# Altium footprint library Connector_Samtec_HLE_THT.PcbLib: 141 footprints (part 1 of 9)
Each footprint in its own frame and in the unit in brackets; x right, y up, seen from the top. Pads: shape width x height; smd on the part's side, far side on the other; paste and mask are expansions set on the pad; w line width, h text height; cw(c..) or ccw(c..) is an arc to the next point about the centre after c.
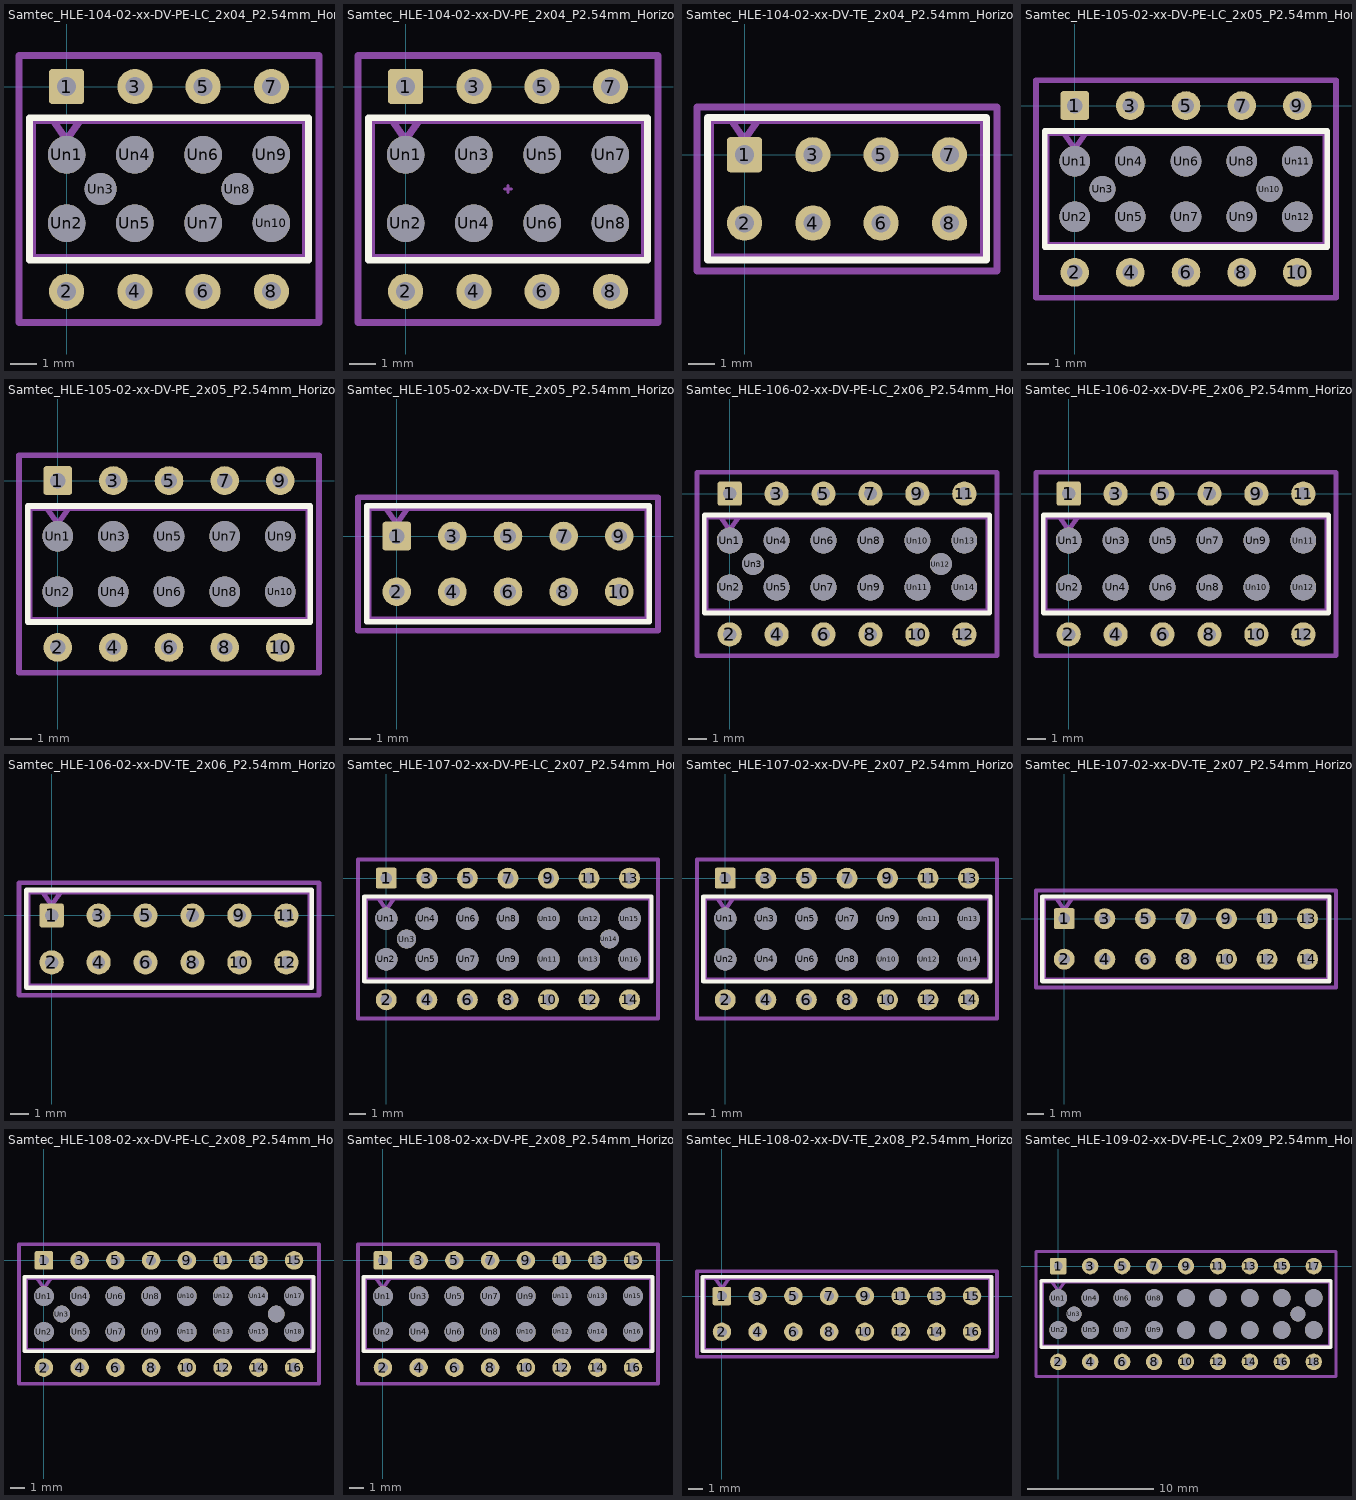
[diagram p0: the footprints below, top view; thin cyan lines are the x and y axes]

## Samtec_HLE-104-02-xx-DV-PE-LC_2x04_P2.54mm_Horizontal [mm]
pads (18):
  rrect19% 1.31x1.31 hole 0.71: 1(0,0)
  round 1.31 hole 0.71: 2(0,-7.62) 3(2.54,0) 4(2.54,-7.62) 5(5.08,0) 6(5.08,-7.62) 7(7.62,0) 8(7.62,-7.62)
  round 1.4 hole 1.4: Un1(0,-2.54) Un2(0,-5.08) Un4(2.54,-2.54) Un5(2.54,-5.08) Un6(5.08,-2.54) Un7(5.08,-5.08) Un9(7.62,-2.54) Un10(7.62,-5.08)
  round 1.19 hole 1.19: Un3(1.27,-3.81) Un8(6.35,-3.81)
F.SilkS:
  lines w0.254: -1.38,-6.46 9,-6.46 9,-1.16 -1.38,-1.16 -1.38,-6.46
Top Assembly:
  lines w0.254: -0.5,-1.27 0,-1.977 0.5,-1.27 ; -1.27,-6.35 8.89,-6.35 8.89,-1.27 -1.27,-1.27 -1.27,-6.35
  text "'.Designator'" at -0.237,-6.49 h1
Top Courtyard:
  lines w0.254: -1.77,-8.78 9.39,-8.78 9.39,1.16 -1.77,1.16 -1.77,-8.78
Top Designator:
  text ".Designator" at -3.808,-4.318 h1.52

## Samtec_HLE-104-02-xx-DV-PE_2x04_P2.54mm_Horizontal [mm]
pads (16):
  rrect19% 1.31x1.31 hole 0.71: 1(0,0)
  round 1.31 hole 0.71: 2(0,-7.62) 3(2.54,0) 4(2.54,-7.62) 5(5.08,0) 6(5.08,-7.62) 7(7.62,0) 8(7.62,-7.62)
  round 1.4 hole 1.4: Un1(0,-2.54) Un2(0,-5.08) Un3(2.54,-2.54) Un4(2.54,-5.08) Un5(5.08,-2.54) Un6(5.08,-5.08) Un7(7.62,-2.54) Un8(7.62,-5.08)
F.SilkS:
  lines w0.254: -1.38,-6.46 9,-6.46 9,-1.16 -1.38,-1.16 -1.38,-6.46
Top Component Center:
  lines w0.127: 3.683,-3.81 3.937,-3.81 ; 3.81,-3.937 3.81,-3.683
Top Assembly:
  lines w0.254: -0.5,-1.27 0,-1.977 0.5,-1.27 ; -1.27,-6.35 8.89,-6.35 8.89,-1.27 -1.27,-1.27 -1.27,-6.35
  text "'.Designator'" at -0.237,-6.49 h1
Top Courtyard:
  lines w0.254: -1.77,-8.78 9.39,-8.78 9.39,1.16 -1.77,1.16 -1.77,-8.78
Top Designator:
  text ".Designator" at -3.808,-4.318 h1.52

## Samtec_HLE-104-02-xx-DV-TE_2x04_P2.54mm_Horizontal [mm]
pads (8):
  rrect19% 1.31x1.31 hole 0.71: 1(0,0)
  round 1.31 hole 0.71: 2(0,-2.54) 3(2.54,0) 4(2.54,-2.54) 5(5.08,0) 6(5.08,-2.54) 7(7.62,0) 8(7.62,-2.54)
F.SilkS:
  lines w0.254: -1.38,-3.92 9,-3.92 9,1.38 -1.38,1.38 -1.38,-3.92
Top Assembly:
  lines w0.254: -0.5,1.27 0,0.563 0.5,1.27 ; -1.27,-3.81 8.89,-3.81 8.89,1.27 -1.27,1.27 -1.27,-3.81
  text "'.Designator'" at -0.237,-3.95 h1
Top Courtyard:
  lines w0.254: -1.77,-4.32 9.39,-4.32 9.39,1.77 -1.77,1.77 -1.77,-4.32
Top Designator:
  text ".Designator" at -3.808,-1.783 h1.52

## Samtec_HLE-105-02-xx-DV-PE-LC_2x05_P2.54mm_Horizontal [mm]
pads (22):
  rrect19% 1.31x1.31 hole 0.71: 1(0,0)
  round 1.31 hole 0.71: 2(0,-7.62) 3(2.54,0) 4(2.54,-7.62) 5(5.08,0) 6(5.08,-7.62) 7(7.62,0) 8(7.62,-7.62) 9(10.16,0) 10(10.16,-7.62)
  round 1.4 hole 1.4: Un1(0,-2.54) Un2(0,-5.08) Un4(2.54,-2.54) Un5(2.54,-5.08) Un6(5.08,-2.54) Un7(5.08,-5.08) Un8(7.62,-2.54) Un9(7.62,-5.08) Un11(10.16,-2.54) Un12(10.16,-5.08)
  round 1.19 hole 1.19: Un3(1.27,-3.81) Un10(8.89,-3.81)
F.SilkS:
  lines w0.254: -1.38,-6.46 11.54,-6.46 11.54,-1.16 -1.38,-1.16 -1.38,-6.46
Top Assembly:
  lines w0.254: -0.5,-1.27 0,-1.977 0.5,-1.27 ; -1.27,-6.35 11.43,-6.35 11.43,-1.27 -1.27,-1.27 -1.27,-6.35
  text "'.Designator'" at 1.033,-6.49 h1
Top Courtyard:
  lines w0.254: -1.77,-8.78 11.93,-8.78 11.93,1.16 -1.77,1.16 -1.77,-8.78
Top Designator:
  text ".Designator" at -2.538,-4.318 h1.52

## Samtec_HLE-105-02-xx-DV-PE_2x05_P2.54mm_Horizontal [mm]
pads (20):
  rrect19% 1.31x1.31 hole 0.71: 1(0,0)
  round 1.31 hole 0.71: 2(0,-7.62) 3(2.54,0) 4(2.54,-7.62) 5(5.08,0) 6(5.08,-7.62) 7(7.62,0) 8(7.62,-7.62) 9(10.16,0) 10(10.16,-7.62)
  round 1.4 hole 1.4: Un1(0,-2.54) Un2(0,-5.08) Un3(2.54,-2.54) Un4(2.54,-5.08) Un5(5.08,-2.54) Un6(5.08,-5.08) Un7(7.62,-2.54) Un8(7.62,-5.08) Un9(10.16,-2.54) Un10(10.16,-5.08)
F.SilkS:
  lines w0.254: -1.38,-6.46 11.54,-6.46 11.54,-1.16 -1.38,-1.16 -1.38,-6.46
Top Assembly:
  lines w0.254: -0.5,-1.27 0,-1.977 0.5,-1.27 ; -1.27,-6.35 11.43,-6.35 11.43,-1.27 -1.27,-1.27 -1.27,-6.35
  text "'.Designator'" at 1.033,-6.49 h1
Top Courtyard:
  lines w0.254: -1.77,-8.78 11.93,-8.78 11.93,1.16 -1.77,1.16 -1.77,-8.78
Top Designator:
  text ".Designator" at -2.538,-4.318 h1.52

## Samtec_HLE-105-02-xx-DV-TE_2x05_P2.54mm_Horizontal [mm]
pads (10):
  rrect19% 1.31x1.31 hole 0.71: 1(0,0)
  round 1.31 hole 0.71: 2(0,-2.54) 3(2.54,0) 4(2.54,-2.54) 5(5.08,0) 6(5.08,-2.54) 7(7.62,0) 8(7.62,-2.54) 9(10.16,0) 10(10.16,-2.54)
F.SilkS:
  lines w0.254: -1.38,-3.92 11.54,-3.92 11.54,1.38 -1.38,1.38 -1.38,-3.92
Top Assembly:
  lines w0.254: -0.5,1.27 0,0.563 0.5,1.27 ; -1.27,-3.81 11.43,-3.81 11.43,1.27 -1.27,1.27 -1.27,-3.81
  text "'.Designator'" at 1.033,-3.95 h1
Top Courtyard:
  lines w0.254: -1.77,-4.32 11.93,-4.32 11.93,1.77 -1.77,1.77 -1.77,-4.32
Top Designator:
  text ".Designator" at -2.538,-1.783 h1.52

## Samtec_HLE-106-02-xx-DV-PE-LC_2x06_P2.54mm_Horizontal [mm]
pads (26):
  rrect19% 1.31x1.31 hole 0.71: 1(0,0)
  round 1.31 hole 0.71: 2(0,-7.62) 3(2.54,0) 4(2.54,-7.62) 5(5.08,0) 6(5.08,-7.62) 7(7.62,0) 8(7.62,-7.62) 9(10.16,0) 10(10.16,-7.62) 11(12.7,0) 12(12.7,-7.62)
  round 1.4 hole 1.4: Un1(0,-2.54) Un2(0,-5.08) Un4(2.54,-2.54) Un5(2.54,-5.08) Un6(5.08,-2.54) Un7(5.08,-5.08) Un8(7.62,-2.54) Un9(7.62,-5.08) Un10(10.16,-2.54) Un11(10.16,-5.08) Un13(12.7,-2.54) Un14(12.7,-5.08)
  round 1.19 hole 1.19: Un3(1.27,-3.81) Un12(11.43,-3.81)
F.SilkS:
  lines w0.254: -1.38,-6.46 14.08,-6.46 14.08,-1.16 -1.38,-1.16 -1.38,-6.46
Top Assembly:
  lines w0.254: -0.5,-1.27 0,-1.977 0.5,-1.27 ; -1.27,-6.35 13.97,-6.35 13.97,-1.27 -1.27,-1.27 -1.27,-6.35
  text "'.Designator'" at 2.303,-6.49 h1
Top Courtyard:
  lines w0.254: -1.77,-8.78 14.47,-8.78 14.47,1.16 -1.77,1.16 -1.77,-8.78
Top Designator:
  text ".Designator" at -1.268,-4.318 h1.52

## Samtec_HLE-106-02-xx-DV-PE_2x06_P2.54mm_Horizontal [mm]
pads (24):
  rrect19% 1.31x1.31 hole 0.71: 1(0,0)
  round 1.31 hole 0.71: 2(0,-7.62) 3(2.54,0) 4(2.54,-7.62) 5(5.08,0) 6(5.08,-7.62) 7(7.62,0) 8(7.62,-7.62) 9(10.16,0) 10(10.16,-7.62) 11(12.7,0) 12(12.7,-7.62)
  round 1.4 hole 1.4: Un1(0,-2.54) Un2(0,-5.08) Un3(2.54,-2.54) Un4(2.54,-5.08) Un5(5.08,-2.54) Un6(5.08,-5.08) Un7(7.62,-2.54) Un8(7.62,-5.08) Un9(10.16,-2.54) Un10(10.16,-5.08) Un11(12.7,-2.54) Un12(12.7,-5.08)
F.SilkS:
  lines w0.254: -1.38,-6.46 14.08,-6.46 14.08,-1.16 -1.38,-1.16 -1.38,-6.46
Top Assembly:
  lines w0.254: -0.5,-1.27 0,-1.977 0.5,-1.27 ; -1.27,-6.35 13.97,-6.35 13.97,-1.27 -1.27,-1.27 -1.27,-6.35
  text "'.Designator'" at 2.303,-6.49 h1
Top Courtyard:
  lines w0.254: -1.77,-8.78 14.47,-8.78 14.47,1.16 -1.77,1.16 -1.77,-8.78
Top Designator:
  text ".Designator" at -1.268,-4.318 h1.52

## Samtec_HLE-106-02-xx-DV-TE_2x06_P2.54mm_Horizontal [mm]
pads (12):
  rrect19% 1.31x1.31 hole 0.71: 1(0,0)
  round 1.31 hole 0.71: 2(0,-2.54) 3(2.54,0) 4(2.54,-2.54) 5(5.08,0) 6(5.08,-2.54) 7(7.62,0) 8(7.62,-2.54) 9(10.16,0) 10(10.16,-2.54) 11(12.7,0) 12(12.7,-2.54)
F.SilkS:
  lines w0.254: -1.38,-3.92 14.08,-3.92 14.08,1.38 -1.38,1.38 -1.38,-3.92
Top Assembly:
  lines w0.254: -0.5,1.27 0,0.563 0.5,1.27 ; -1.27,-3.81 13.97,-3.81 13.97,1.27 -1.27,1.27 -1.27,-3.81
  text "'.Designator'" at 2.303,-3.95 h1
Top Courtyard:
  lines w0.254: -1.77,-4.32 14.47,-4.32 14.47,1.77 -1.77,1.77 -1.77,-4.32
Top Designator:
  text ".Designator" at -1.268,-1.783 h1.52

## Samtec_HLE-107-02-xx-DV-PE-LC_2x07_P2.54mm_Horizontal [mm]
pads (30):
  rrect19% 1.31x1.31 hole 0.71: 1(0,0)
  round 1.31 hole 0.71: 2(0,-7.62) 3(2.54,0) 4(2.54,-7.62) 5(5.08,0) 6(5.08,-7.62) 7(7.62,0) 8(7.62,-7.62) 9(10.16,0) 10(10.16,-7.62) 11(12.7,0) 12(12.7,-7.62) 13(15.24,0) 14(15.24,-7.62)
  round 1.4 hole 1.4: Un1(0,-2.54) Un2(0,-5.08) Un4(2.54,-2.54) Un5(2.54,-5.08) Un6(5.08,-2.54) Un7(5.08,-5.08) Un8(7.62,-2.54) Un9(7.62,-5.08) Un10(10.16,-2.54) Un11(10.16,-5.08) Un12(12.7,-2.54) Un13(12.7,-5.08) Un15(15.24,-2.54) Un16(15.24,-5.08)
  round 1.19 hole 1.19: Un3(1.27,-3.81) Un14(13.97,-3.81)
F.SilkS:
  lines w0.254: -1.38,-6.46 16.62,-6.46 16.62,-1.16 -1.38,-1.16 -1.38,-6.46
Top Assembly:
  lines w0.254: -0.5,-1.27 0,-1.977 0.5,-1.27 ; -1.27,-6.35 16.51,-6.35 16.51,-1.27 -1.27,-1.27 -1.27,-6.35
  text "'.Designator'" at 3.573,-6.49 h1
Top Courtyard:
  lines w0.254: -1.77,-8.78 17.02,-8.78 17.02,1.16 -1.77,1.16 -1.77,-8.78
Top Designator:
  text ".Designator" at 0.007,-4.318 h1.52

## Samtec_HLE-107-02-xx-DV-PE_2x07_P2.54mm_Horizontal [mm]
pads (28):
  rrect19% 1.31x1.31 hole 0.71: 1(0,0)
  round 1.31 hole 0.71: 2(0,-7.62) 3(2.54,0) 4(2.54,-7.62) 5(5.08,0) 6(5.08,-7.62) 7(7.62,0) 8(7.62,-7.62) 9(10.16,0) 10(10.16,-7.62) 11(12.7,0) 12(12.7,-7.62) 13(15.24,0) 14(15.24,-7.62)
  round 1.4 hole 1.4: Un1(0,-2.54) Un2(0,-5.08) Un3(2.54,-2.54) Un4(2.54,-5.08) Un5(5.08,-2.54) Un6(5.08,-5.08) Un7(7.62,-2.54) Un8(7.62,-5.08) Un9(10.16,-2.54) Un10(10.16,-5.08) Un11(12.7,-2.54) Un12(12.7,-5.08) Un13(15.24,-2.54) Un14(15.24,-5.08)
F.SilkS:
  lines w0.254: -1.38,-6.46 16.62,-6.46 16.62,-1.16 -1.38,-1.16 -1.38,-6.46
Top Assembly:
  lines w0.254: -0.5,-1.27 0,-1.977 0.5,-1.27 ; -1.27,-6.35 16.51,-6.35 16.51,-1.27 -1.27,-1.27 -1.27,-6.35
  text "'.Designator'" at 3.573,-6.49 h1
Top Courtyard:
  lines w0.254: -1.77,-8.78 17.02,-8.78 17.02,1.16 -1.77,1.16 -1.77,-8.78
Top Designator:
  text ".Designator" at 0.007,-4.318 h1.52

## Samtec_HLE-107-02-xx-DV-TE_2x07_P2.54mm_Horizontal [mm]
pads (14):
  rrect19% 1.31x1.31 hole 0.71: 1(0,0)
  round 1.31 hole 0.71: 2(0,-2.54) 3(2.54,0) 4(2.54,-2.54) 5(5.08,0) 6(5.08,-2.54) 7(7.62,0) 8(7.62,-2.54) 9(10.16,0) 10(10.16,-2.54) 11(12.7,0) 12(12.7,-2.54) 13(15.24,0) 14(15.24,-2.54)
F.SilkS:
  lines w0.254: -1.38,-3.92 16.62,-3.92 16.62,1.38 -1.38,1.38 -1.38,-3.92
Top Assembly:
  lines w0.254: -0.5,1.27 0,0.563 0.5,1.27 ; -1.27,-3.81 16.51,-3.81 16.51,1.27 -1.27,1.27 -1.27,-3.81
  text "'.Designator'" at 3.573,-3.95 h1
Top Courtyard:
  lines w0.254: -1.77,-4.32 17.02,-4.32 17.02,1.77 -1.77,1.77 -1.77,-4.32
Top Designator:
  text ".Designator" at 0.007,-1.783 h1.52

## Samtec_HLE-108-02-xx-DV-PE-LC_2x08_P2.54mm_Horizontal [mm]
pads (34):
  rrect19% 1.31x1.31 hole 0.71: 1(0,0)
  round 1.31 hole 0.71: 2(0,-7.62) 3(2.54,0) 4(2.54,-7.62) 5(5.08,0) 6(5.08,-7.62) 7(7.62,0) 8(7.62,-7.62) 9(10.16,0) 10(10.16,-7.62) 11(12.7,0) 12(12.7,-7.62) 13(15.24,0) 14(15.24,-7.62) 15(17.78,0) 16(17.78,-7.62)
  round 1.4 hole 1.4: Un1(0,-2.54) Un2(0,-5.08) Un4(2.54,-2.54) Un5(2.54,-5.08) Un6(5.08,-2.54) Un7(5.08,-5.08) Un8(7.62,-2.54) Un9(7.62,-5.08) Un10(10.16,-2.54) Un11(10.16,-5.08) Un12(12.7,-2.54) Un13(12.7,-5.08) Un14(15.24,-2.54) Un15(15.24,-5.08) Un17(17.78,-2.54) Un18(17.78,-5.08)
  round 1.19 hole 1.19: Un3(1.27,-3.81) Un16(16.51,-3.81)
F.SilkS:
  lines w0.254: -1.38,-6.46 19.16,-6.46 19.16,-1.16 -1.38,-1.16 -1.38,-6.46
Top Assembly:
  lines w0.254: -0.5,-1.27 0,-1.977 0.5,-1.27 ; -1.27,-6.35 19.05,-6.35 19.05,-1.27 -1.27,-1.27 -1.27,-6.35
  text "'.Designator'" at 4.843,-6.49 h1
Top Courtyard:
  lines w0.254: -1.77,-8.78 19.55,-8.78 19.55,1.16 -1.77,1.16 -1.77,-8.78
Top Designator:
  text ".Designator" at 1.272,-4.318 h1.52

## Samtec_HLE-108-02-xx-DV-PE_2x08_P2.54mm_Horizontal [mm]
pads (32):
  rrect19% 1.31x1.31 hole 0.71: 1(0,0)
  round 1.31 hole 0.71: 2(0,-7.62) 3(2.54,0) 4(2.54,-7.62) 5(5.08,0) 6(5.08,-7.62) 7(7.62,0) 8(7.62,-7.62) 9(10.16,0) 10(10.16,-7.62) 11(12.7,0) 12(12.7,-7.62) 13(15.24,0) 14(15.24,-7.62) 15(17.78,0) 16(17.78,-7.62)
  round 1.4 hole 1.4: Un1(0,-2.54) Un2(0,-5.08) Un3(2.54,-2.54) Un4(2.54,-5.08) Un5(5.08,-2.54) Un6(5.08,-5.08) Un7(7.62,-2.54) Un8(7.62,-5.08) Un9(10.16,-2.54) Un10(10.16,-5.08) Un11(12.7,-2.54) Un12(12.7,-5.08) Un13(15.24,-2.54) Un14(15.24,-5.08) Un15(17.78,-2.54) Un16(17.78,-5.08)
F.SilkS:
  lines w0.254: -1.38,-6.46 19.16,-6.46 19.16,-1.16 -1.38,-1.16 -1.38,-6.46
Top Assembly:
  lines w0.254: -0.5,-1.27 0,-1.977 0.5,-1.27 ; -1.27,-6.35 19.05,-6.35 19.05,-1.27 -1.27,-1.27 -1.27,-6.35
  text "'.Designator'" at 4.843,-6.49 h1
Top Courtyard:
  lines w0.254: -1.77,-8.78 19.55,-8.78 19.55,1.16 -1.77,1.16 -1.77,-8.78
Top Designator:
  text ".Designator" at 1.272,-4.318 h1.52

## Samtec_HLE-108-02-xx-DV-TE_2x08_P2.54mm_Horizontal [mm]
pads (16):
  rrect19% 1.31x1.31 hole 0.71: 1(0,0)
  round 1.31 hole 0.71: 2(0,-2.54) 3(2.54,0) 4(2.54,-2.54) 5(5.08,0) 6(5.08,-2.54) 7(7.62,0) 8(7.62,-2.54) 9(10.16,0) 10(10.16,-2.54) 11(12.7,0) 12(12.7,-2.54) 13(15.24,0) 14(15.24,-2.54) 15(17.78,0) 16(17.78,-2.54)
F.SilkS:
  lines w0.254: -1.38,-3.92 19.16,-3.92 19.16,1.38 -1.38,1.38 -1.38,-3.92
Top Assembly:
  lines w0.254: -0.5,1.27 0,0.563 0.5,1.27 ; -1.27,-3.81 19.05,-3.81 19.05,1.27 -1.27,1.27 -1.27,-3.81
  text "'.Designator'" at 4.843,-3.95 h1
Top Courtyard:
  lines w0.254: -1.77,-4.32 19.55,-4.32 19.55,1.77 -1.77,1.77 -1.77,-4.32
Top Designator:
  text ".Designator" at 1.272,-1.783 h1.52

## Samtec_HLE-109-02-xx-DV-PE-LC_2x09_P2.54mm_Horizontal [mm]
pads (38):
  rrect19% 1.31x1.31 hole 0.71: 1(0,0)
  round 1.31 hole 0.71: 2(0,-7.62) 3(2.54,0) 4(2.54,-7.62) 5(5.08,0) 6(5.08,-7.62) 7(7.62,0) 8(7.62,-7.62) 9(10.16,0) 10(10.16,-7.62) 11(12.7,0) 12(12.7,-7.62) 13(15.24,0) 14(15.24,-7.62) 15(17.78,0) 16(17.78,-7.62) 17(20.32,0) 18(20.32,-7.62)
  round 1.4 hole 1.4: Un1(0,-2.54) Un2(0,-5.08) Un4(2.54,-2.54) Un5(2.54,-5.08) Un6(5.08,-2.54) Un7(5.08,-5.08) Un8(7.62,-2.54) Un9(7.62,-5.08) Un10(10.16,-2.54) Un11(10.16,-5.08) Un12(12.7,-2.54) Un13(12.7,-5.08) Un14(15.24,-2.54) Un15(15.24,-5.08) Un16(17.78,-2.54) Un17(17.78,-5.08) Un19(20.32,-2.54) Un20(20.32,-5.08)
  round 1.19 hole 1.19: Un3(1.27,-3.81) Un18(19.05,-3.81)
F.SilkS:
  lines w0.254: -1.38,-6.46 21.7,-6.46 21.7,-1.16 -1.38,-1.16 -1.38,-6.46
Top Assembly:
  lines w0.254: -0.5,-1.27 0,-1.977 0.5,-1.27 ; -1.27,-6.35 21.59,-6.35 21.59,-1.27 -1.27,-1.27 -1.27,-6.35
  text "'.Designator'" at 6.113,-6.49 h1
Top Courtyard:
  lines w0.254: -1.77,-8.78 22.09,-8.78 22.09,1.16 -1.77,1.16 -1.77,-8.78
Top Designator:
  text ".Designator" at 2.542,-4.318 h1.52